# EAGLE library part PICO80P1_V2 (library JLB6_Connec)
Embase PICOCPU P1 (carte mere) Version 2
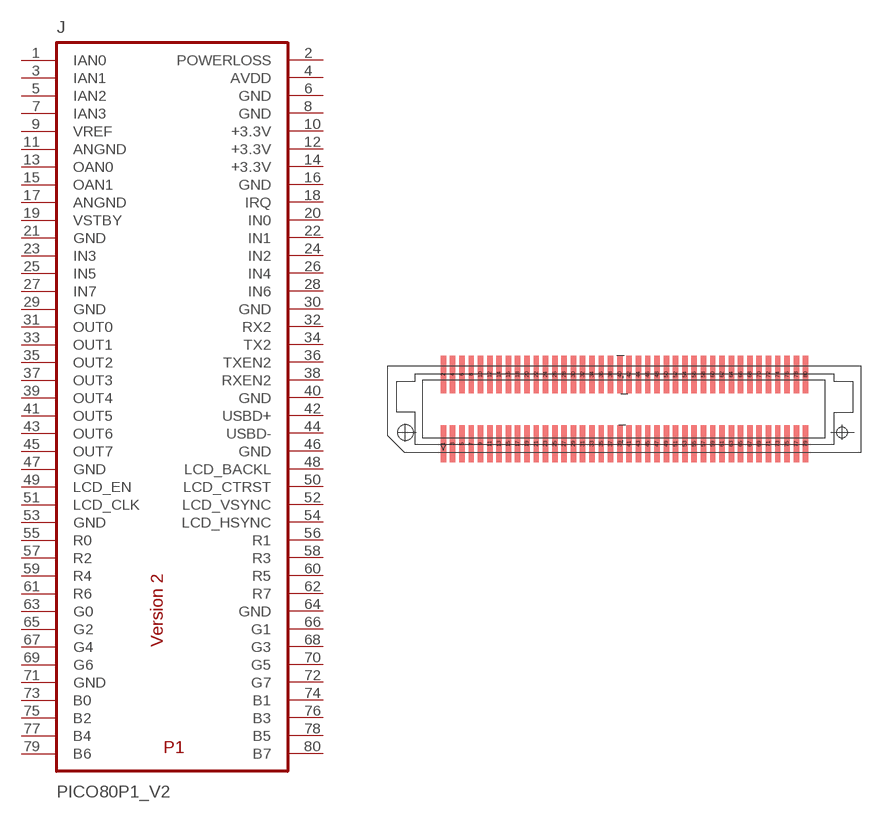
[diagram p36: symbol with the pads of FX8C-80P; footprint FX8C-80P]

Designator prefix J

## PICO80P1_V2  [FX8C-80P]
1  IAN0
2  POWERLOSS
3  IAN1
4  AVDD
5  IAN2
6  GND  pwr
7  IAN3
8  GND  pwr
9  VREF
10  +3.3V  pwr
11  ANGND  pwr
12  +3.3V  pwr
13  OAN0
14  +3.3V  pwr
15  OAN1
16  GND  pwr
17  ANGND  pwr
18  IRQ
19  VSTBY  pwr
20  IN0
21  GND  pwr
22  IN1
23  IN3
24  IN2
25  IN5
26  IN4
27  IN7
28  IN6
29  GND  pwr
30  GND  pwr
31  OUT0
32  RX2
33  OUT1
34  TX2
35  OUT2
36  TXEN2
37  OUT3
38  RXEN2
39  OUT4
40  GND  pwr
41  OUT5
42  USBD+
43  OUT6
44  USBD-
45  OUT7
46  GND  pwr
47  GND  pwr
48  LCD_BACKL
49  LCD_EN
50  LCD_CTRST
51  LCD_CLK
52  LCD_VSYNC
53  GND  pwr
54  LCD_HSYNC
55  R0
56  R1
57  R2
58  R3
59  R4
60  R5
61  R6
62  R7
63  G0
64  GND  pwr
65  G2
66  G1
67  G4
68  G3
69  G6
70  G5
71  GND  pwr
72  G7
73  B0
74  B1
75  B2
76  B3
77  B4
78  B5
79  B6
80  B7

## Footprint FX8C-80P (pad centres in mm)
smd 0.35 x 2.4: 1 -11.7,-2.238; 2 -11.7,2.238; 3 -11.1,-2.238; 4 -11.1,2.238; 5 -10.5,-2.238; 6 -10.5,2.238; 7 -9.9,-2.238; 8 -9.9,2.238; 9 -9.3,-2.238; 10 -9.3,2.238; 11 -8.7,-2.238; 12 -8.7,2.238; 13 -8.1,-2.238; 14 -8.1,2.238; 15 -7.5,-2.238; 16 -7.5,2.238; 17 -6.9,-2.238; 18 -6.9,2.238; 19 -6.3,-2.238; 20 -6.3,2.238; 21 -5.7,-2.238; 22 -5.7,2.238; 23 -5.1,-2.238; 24 -5.1,2.238; 25 -4.5,-2.238; 26 -4.5,2.238; 27 -3.9,-2.238; 28 -3.9,2.238; 29 -3.3,-2.238; 30 -3.3,2.238; 31 -2.7,-2.238; 32 -2.7,2.238; 33 -2.1,-2.238; 34 -2.1,2.238; 35 -1.5,-2.238; 36 -1.5,2.238; 37 -0.9,-2.238; 38 -0.9,2.238; 39 -0.3,-2.238; 40 -0.3,2.238; 41 0.3,-2.238; 42 0.3,2.238; 43 0.9,-2.238; 44 0.9,2.238; 45 1.5,-2.238; 46 1.5,2.238; 47 2.1,-2.238; 48 2.1,2.238; 49 2.7,-2.238; 50 2.7,2.238; 51 3.3,-2.238; 52 3.3,2.238; 53 3.9,-2.238; 54 3.9,2.238; 55 4.5,-2.238; 56 4.5,2.238; 57 5.1,-2.238; 58 5.1,2.238; 59 5.7,-2.238; 60 5.7,2.238; 61 6.3,-2.238; 62 6.3,2.238; 63 6.9,-2.238; 64 6.9,2.238; 65 7.5,-2.238; 66 7.5,2.238; 67 8.1,-2.238; 68 8.1,2.238; 69 8.7,-2.238; 70 8.7,2.238; 71 9.3,-2.238; 72 9.3,2.238; 73 9.9,-2.238; 74 9.9,2.238; 75 10.5,-2.238; 76 10.5,2.238; 77 11.1,-2.238; 78 11.1,2.238; 79 11.7,-2.238; 80 11.7,2.238
hole 0.991 at -14.147,-1.499
hole 0.686 at 14.047,-1.499